# Altium footprint library PCB.PcbLib: 44 footprints (part 3 of 3)
Each footprint in its own frame and in the unit in brackets; x right, y up, seen from the top. Pads: shape width x height; smd on the part's side, far side on the other; paste and mask are expansions set on the pad; w line width, h text height; cw(c..) or ccw(c..) is an arc to the next point about the centre after c.
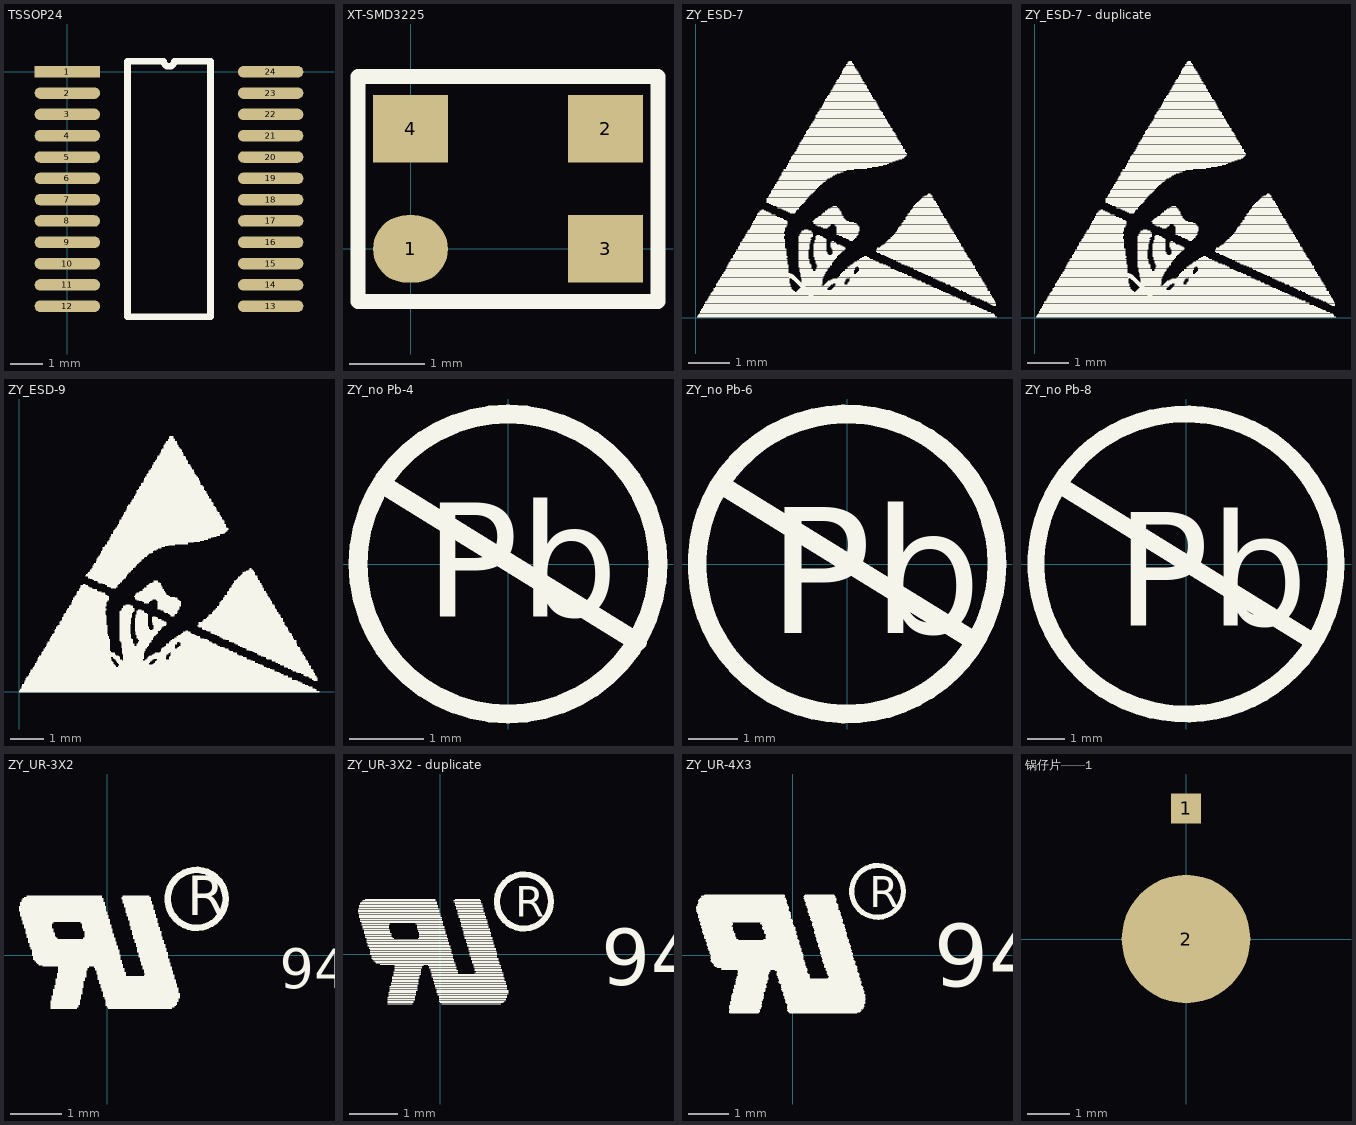
[diagram p2: the footprints below, top view; thin cyan lines are the x and y axes]

## TSSOP24 [mm]
pads (24):
  rect 2x0.35 smd: 1(0,0)
  oval 2x0.35 smd: 2(0,-0.65) 3(0,-1.3) 4(0,-1.95) 5(0,-2.6) 6(0,-3.25) 7(0,-3.9) 8(0,-4.55) 9(0,-5.2) 10(0,-5.85) 11(0,-6.5) 12(0,-7.15) 13(6.2,-7.15) 14(6.2,-6.5) 15(6.2,-5.85) 16(6.2,-5.2) 17(6.2,-4.55) 18(6.2,-3.9) 19(6.2,-3.25) 20(6.2,-2.6) 21(6.2,-1.95) 22(6.2,-1.3) 23(6.2,-0.65) 24(6.2,0)
Top Overlay:
  lines w0.2: 1.835,-7.475 1.835,0.325 2.938,0.325 ccw(c3.1,0.325) 3.263,0.325 4.365,0.325 4.365,-7.475 1.835,-7.475

## XT-SMD3225 [mm]
pads (4):
  oval 1x0.9 smd: 1(0,0)
  rect 1x0.9 smd: 2(2.6,1.6) 3(2.6,0) 4(0,1.6)
Top Overlay:
  lines w0.203: -0.7,-0.7 -0.7,2.3 3.3,2.3 3.3,-0.7 -0.7,-0.7

## ZY_ESD-7 [mm]
Top Overlay:
  drawing of 546 lines, arcs and shapes, not listed

## ZY_ESD-7 - duplicate [mm]
height 0.2
Top Overlay:
  drawing of 546 lines, arcs and shapes, not listed

## ZY_ESD-9 [mm]
height 0.2
Top Overlay:
  drawing of 685 lines, arcs and shapes, not listed

## ZY_no Pb-4 [mm]
height 0.2
Top Overlay:
  circle w0.254: c0,0 r2.032
  lines w0.254: -1.664,1.054 1.753,-1.054
  text "Pb" at -1.13,-0.711 h1.55

## ZY_no Pb-6 [mm]
height 0.2
Top Overlay:
  circle w0.381: c0,0 r3.048
  lines w0.381: -2.522,1.584 2.567,-1.557
  text "Pb" at -1.613,-1.41 h2.57

## ZY_no Pb-8 [mm]
height 0.2
Top Overlay:
  circle w0.457: c0,0 r4.064
  lines w0.457: -3.333,2.084 3.349,-2.039
  text "Pb" at -1.905,-1.676 h3.07

## ZY_UR-3X2 [mm]
Top Overlay:
  drawing of 193 lines, arcs and shapes, not listed
  text "R" at 1.549,0.775 h0.76
  text "94V-0" at 3.327,-0.635 h0.76

## ZY_UR-3X2 - duplicate [mm]
height 0.2
Top Overlay:
  drawing of 193 lines, arcs and shapes, not listed
  text "94V-0" at 3.327,-0.635 h1.17
  text "R" at 1.549,0.775 h0.64

## ZY_UR-4X3 [mm]
height 0.2
Top Overlay:
  drawing of 193 lines, arcs and shapes, not listed
  text "94V-0" at 3.467,-0.775 h1.55
  text "R" at 1.88,1.168 h0.76

## 锅仔片——1 [mm]
pads (2):
  rect 0.7x0.7 smd: 1(0,3.048)
  round 3 smd: 2(0,0)
Top Paste:
  circle w2.5: c0,0 r3.5
Top Solder:
  circle w2.6: c0,0 r3.5
3D body: height 1, standoff 0, extent -1.531,-1.535 1.532,1.536